# EAGLE library part EA_LED55X46_MONO (library ea_v66)
ELECRONIC ASSEMBLY GmbH EA LED55x46-A EA LED55x46-B EA LED55x46-G EA LED55x46-R EA LED55x46-W
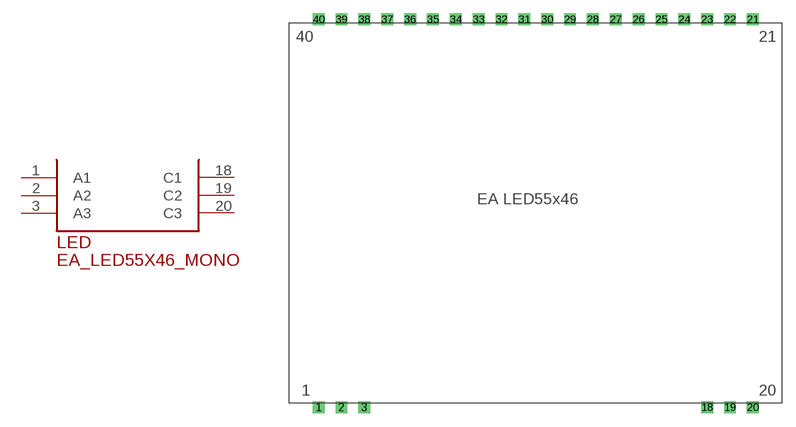
[diagram p2: symbol with the pads of EA_LED55X46; footprint EA_LED55X46]

Designator prefix LED

## EA_LED55X46_MONO  [EA_LED55X46]
1  A1  pas
2  A2  pas
3  A3  pas
18  C1  pas
19  C2  pas
20  C3  pas

## Footprint EA_LED55X46 (pad centres in mm)
drill 0.813 square: 1 0,0; 2 2.54,0; 3 5.08,0; 18 43.18,0; 19 45.72,0; 20 48.26,0; 21 48.26,43.18; 22 45.72,43.18; 23 43.18,43.18; 24 40.64,43.18; 25 38.1,43.18; 26 35.56,43.18; 27 33.02,43.18; 28 30.48,43.18; 29 27.94,43.18; 30 25.4,43.18; 31 22.86,43.18; 32 20.32,43.18; 33 17.78,43.18; 34 15.24,43.18; 35 12.7,43.18; 36 10.16,43.18; 37 7.62,43.18; 38 5.08,43.18; 39 2.54,43.18; 40 0,43.18